# Altium schematic symbol library TPSM82823SILR.SchLib: 2 symbols
Pins are listed as number, name and electrical type; pins without a type are passive.

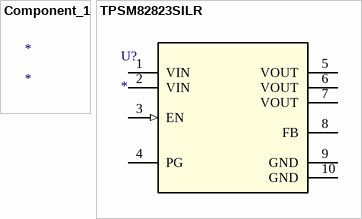
[diagram p0: symbols Component_1 to TPSM82823SILR]

## Component_1
designator *

## TPSM82823SILR
designator U?
No Description Available; Mfr_Name: Texas Instruments; TYPE: TYPE; RefDes: RefDes
footprint SIL0010D-MFG
pins: 1 VIN (power), 2 VIN (power), 3 EN (in), 4 PG (oc), 5 VOUT (power), 6 VOUT (power), 7 VOUT (power), 8 FB, 9 GND (power), 10 GND (power)